# Altium footprint library exar.PCBLIB: 33 footprints (part 2 of 3)
Each footprint in its own frame and in the unit in brackets; x right, y up, seen from the top. Pads: shape width x height; smd on the part's side, far side on the other; paste and mask are expansions set on the pad; w line width, h text height; cw(c..) or ccw(c..) is an arc to the next point about the centre after c.
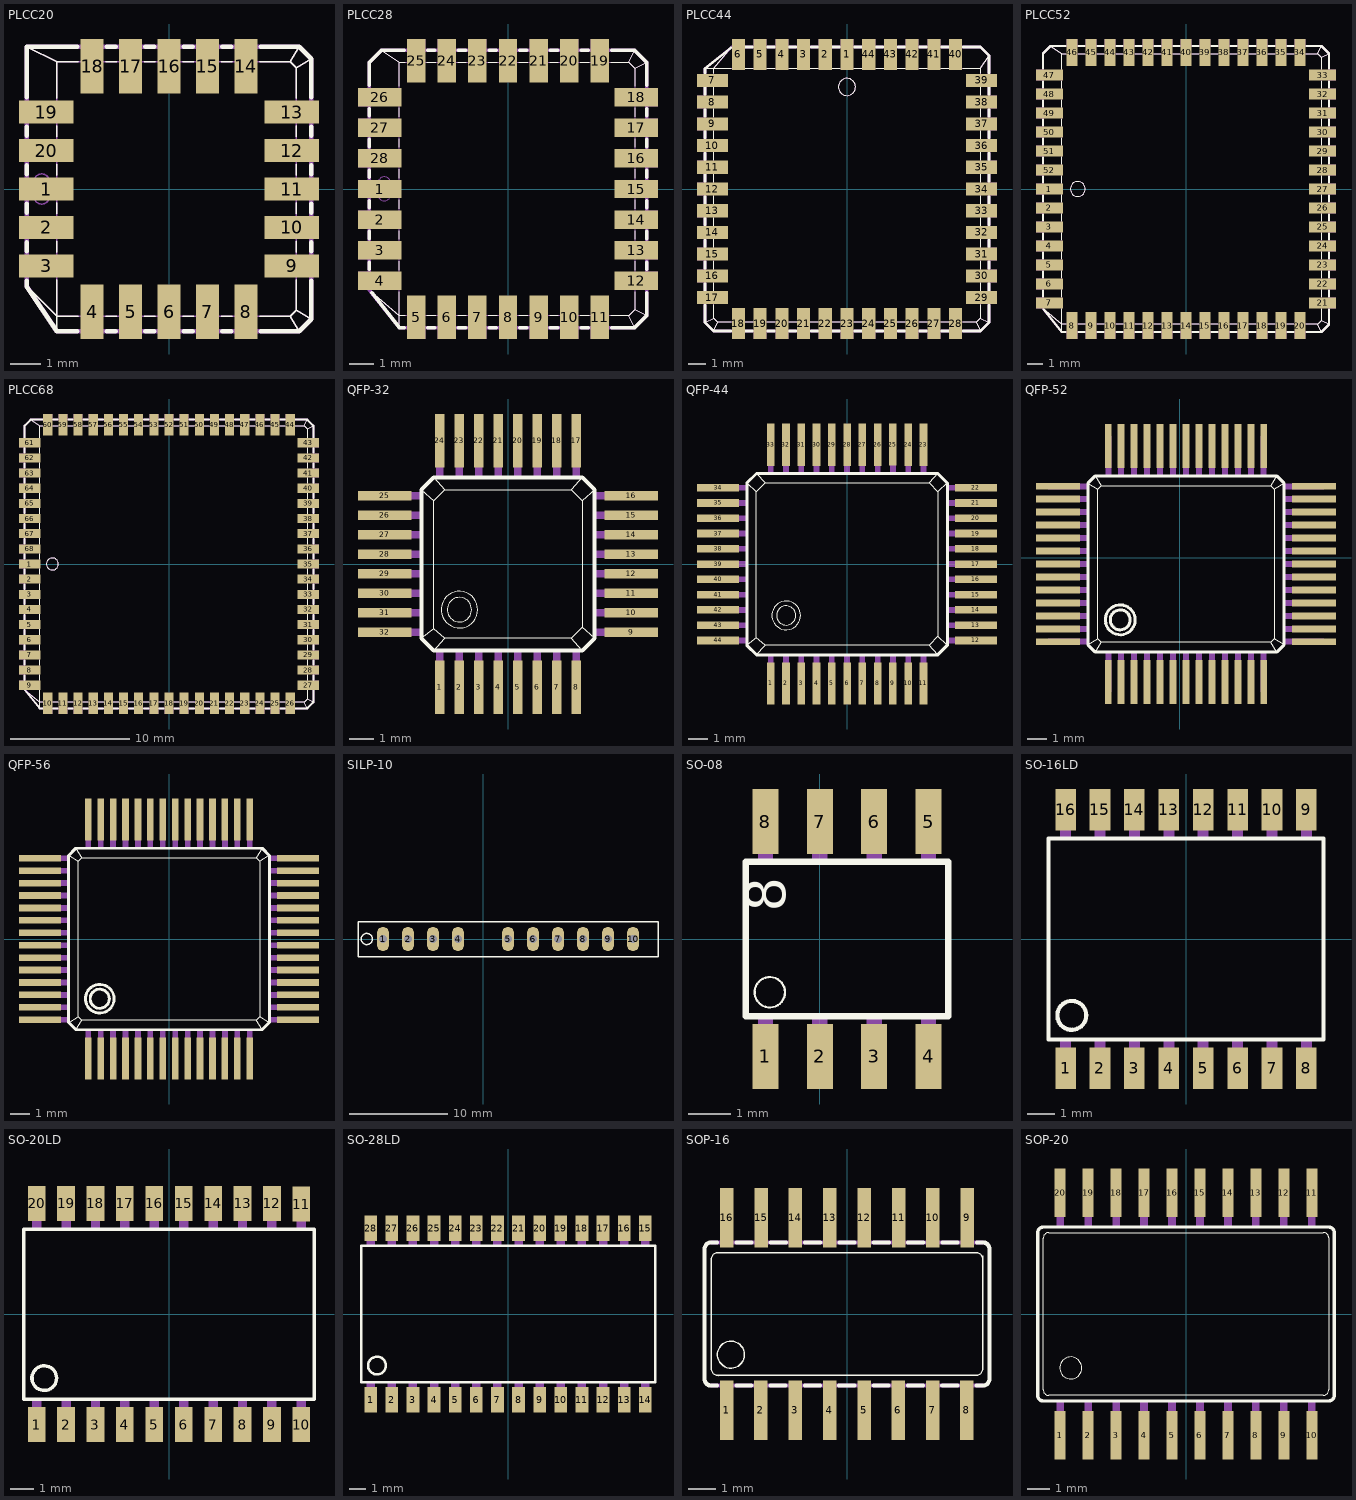
[diagram p1: the footprints below, top view; thin cyan lines are the x and y axes]

## PLCC20 [mil]
pads (20):
  rect 70.87x29.92 smd: 1(-159.45,0) 2(-159.45,-50) 3(-159.45,-100) 9(159.45,-100) 10(159.45,-50) 11(159.45,0) 12(159.45,50) 13(159.45,100) 19(-159.45,100) 20(-159.45,50)
  rect 29.92x70.87 smd: 4(-100,-159.45) 5(-50,-159.45) 6(0,-159.45) 7(50,-159.45) 8(100,-159.45) 14(100,159.45) 15(50,159.45) 16(0,159.45) 17(-50,159.45) 18(-100,159.45)
Top Overlay:
  lines w2: -185.04,185.04 -145.67,165.35 ; -184.65,-126.38 -145.67,-165.35 ; -145.67,-184.65 -145.67,-165.35 ; -145.67,-117.76 -145.67,-165.35 ; -145.67,-82.24 -145.67,-67.76 ; -145.67,-32.24 -145.67,-17.76 ; -145.67,17.76 -145.67,32.24 ; -145.67,67.76 -145.67,82.24 ; -145.67,117.76 -145.67,165.35 ; -117.76,-165.35 -145.67,-165.35 ; -117.76,165.35 -145.67,165.35 ; -82.24,-165.35 -67.76,-165.35 ; -82.24,165.35 -67.76,165.35 ; -32.24,-165.35 -17.76,-165.35 ; -32.24,165.35 -17.76,165.35 ; 17.76,-165.35 32.24,-165.35 ; 17.76,165.35 32.24,165.35 ; 67.76,-165.35 82.24,-165.35 ; 67.76,165.35 82.24,165.35 ; 117.76,-165.35 157.48,-165.35 ; 117.76,165.35 157.48,165.35 ; 165.35,-117.76 165.35,-157.48 ; 165.35,-82.24 165.35,-67.76 ; 165.35,-32.24 165.35,-17.76 ; 165.35,17.76 165.35,32.24 ; 165.35,67.76 165.35,82.24 ; 165.35,117.76 165.35,157.48 ; 169.29,-185.04 157.48,-165.35 ; 169.29,185.04 157.48,165.35 ; 185.04,-169.29 165.35,-157.48 ; 185.04,169.29 165.35,157.48 ; 157.48,-165.35 165.35,-157.48 ; 157.48,165.35 165.35,157.48
  lines w6: -185.04,-119.33 -185.04,-126.38 -145.67,-185.04 -119.33,-185.04 ; -185.04,-80.67 -185.04,-69.33 ; -185.04,-30.67 -185.04,-19.33 ; -185.04,19.33 -185.04,30.67 ; -185.04,69.33 -185.04,80.67 ; -185.04,119.33 -185.04,185.04 -119.33,185.04 ; -80.67,-185.04 -69.33,-185.04 ; -80.67,185.04 -69.33,185.04 ; -30.67,-185.04 -19.33,-185.04 ; -30.67,185.04 -19.33,185.04 ; 19.33,-185.04 30.67,-185.04 ; 19.33,185.04 30.67,185.04 ; 69.33,-185.04 80.67,-185.04 ; 69.33,185.04 80.67,185.04 ; 119.33,-185.04 169.29,-185.04 185.04,-169.29 185.04,-119.33 ; 119.33,185.04 169.29,185.04 185.04,169.29 185.04,119.33 ; 185.04,-80.67 185.04,-69.33 ; 185.04,-30.67 185.04,-19.33 ; 185.04,19.33 185.04,30.67 ; 185.04,69.33 185.04,80.67
Mechanical 16:
  rectangle: -109.84,-194.88 -90.16,-185.04
  rectangle: -109.84,185.04 -90.16,194.88
  rectangle: -59.84,185.04 -40.16,194.88
  rectangle: -9.84,185.04 9.84,194.88
  rectangle: 40.16,185.04 59.84,194.88
  rectangle: 90.16,185.04 109.84,194.88
  rectangle: 40.16,185.04 59.84,194.88
  rectangle: -9.84,185.04 9.84,194.88
  rectangle: 185.04,90.16 194.88,109.84
  rectangle: 185.04,40.16 194.88,59.84
  rectangle: 185.04,-9.84 194.88,9.84
  rectangle: 185.04,-59.84 194.88,-40.16
  rectangle: 185.04,-109.84 194.88,-90.16
  rectangle: -59.84,-194.88 -40.16,-185.04
  rectangle: -9.84,-194.88 9.84,-185.04
  rectangle: 40.16,-194.88 59.84,-185.04
  rectangle: 90.16,-194.88 109.84,-185.04
  rectangle: -194.88,90.16 -185.04,109.84
  rectangle: -194.88,40.16 -185.04,59.84
  rectangle: -194.88,-9.84 -185.04,9.84
  rectangle: -194.88,-59.84 -185.04,-40.16
  rectangle: -194.88,-109.84 -185.04,-90.16
  lines w2: -185.04,-125.98 -145.67,-165.35 ; -185.04,185.04 -145.67,165.35 ; 169.29,-185.04 157.48,-165.35 ; 169.29,185.04 157.48,165.35 ; 185.04,-169.29 165.35,-157.48 ; 185.04,169.29 165.35,157.48 ; -145.67,-165.35 157.48,-165.35 ; -145.67,-165.35 -145.67,165.35 ; -145.67,165.35 157.48,165.35 ; 157.48,-165.35 165.35,-157.48 ; 157.48,165.35 165.35,157.48 ; 165.35,-157.48 165.35,157.48 ; -175.2,-9.84 ccw(c-165.35,-9.84) -155.51,-9.84 -155.51,9.84 ccw(c-165.35,9.84) -175.2,9.84 -175.2,-9.84
  lines w6: -185.04,-125.98 -185.04,185.04 169.29,185.04 185.04,169.29 185.04,-169.29 169.29,-185.04 -145.67,-185.04 -185.04,-125.98

## PLCC28 [mil]
pads (28):
  rect 70.87x29.92 smd: 1(-209.45,0) 2(-209.45,-50) 3(-209.45,-100) 4(-209.45,-150) 12(209.45,-150) 13(209.45,-100) 14(209.45,-50) 15(209.45,0) 16(209.45,50) 17(209.45,100) 18(209.45,150) 26(-209.45,150) 27(-209.45,100) 28(-209.45,50)
  rect 29.92x70.87 smd: 5(-150,-209.45) 6(-100,-209.45) 7(-50,-209.45) 8(0,-209.45) 9(50,-209.45) 10(100,-209.45) 11(150,-209.45) 19(150,209.45) 20(100,209.45) 21(50,209.45) 22(0,209.45) 23(-50,209.45) 24(-100,209.45) 25(-150,209.45)
Top Overlay:
  lines w2: -223.58,-167.76 -177.17,-206.69 ; -206.69,226.38 -177.17,206.69 ; -177.17,-226.38 -177.17,-206.69 ; -177.17,-167.76 -177.17,-206.69 ; -177.17,-132.24 -177.17,-117.76 ; -177.17,-82.24 -177.17,-67.76 ; -177.17,-32.24 -177.17,-17.76 ; -177.17,17.76 -177.17,32.24 ; -177.17,67.76 -177.17,82.24 ; -177.17,117.76 -177.17,132.24 ; -177.17,167.76 -177.17,206.69 ; -167.76,-206.69 -177.17,-206.69 ; -167.76,206.69 -177.17,206.69 ; -132.24,-206.69 -117.76,-206.69 ; -132.24,206.69 -117.76,206.69 ; -82.24,-206.69 -67.76,-206.69 ; -82.24,206.69 -67.76,206.69 ; -32.24,-206.69 -17.76,-206.69 ; -32.24,206.69 -17.76,206.69 ; 17.76,-206.69 32.24,-206.69 ; 17.76,206.69 32.24,206.69 ; 67.76,-206.69 82.24,-206.69 ; 67.76,206.69 82.24,206.69 ; 117.76,-206.69 132.24,-206.69 ; 117.76,206.69 132.24,206.69 ; 167.76,-206.69 196.85,-206.69 ; 167.76,206.69 196.85,206.69 ; 206.69,-226.38 196.85,-206.69 ; 206.69,-167.76 206.69,-196.85 ; 206.69,-132.24 206.69,-117.76 ; 206.69,-82.24 206.69,-67.76 ; 206.69,-32.24 206.69,-17.76 ; 206.69,17.76 206.69,32.24 ; 206.69,67.76 206.69,82.24 ; 206.69,117.76 206.69,132.24 ; 206.69,167.76 206.69,196.85 ; 206.69,226.38 196.85,206.69 ; 226.38,-206.69 206.69,-196.85 ; 226.38,206.69 206.69,196.85 ; 196.85,-206.69 206.69,-196.85 ; 196.85,206.69 206.69,196.85
  lines w6: -226.38,-130.67 -226.38,-119.33 ; -226.38,-80.67 -226.38,-69.33 ; -226.38,-30.67 -226.38,-19.33 ; -226.38,19.33 -226.38,30.67 ; -226.38,69.33 -226.38,80.67 ; -226.38,119.33 -226.38,130.67 ; -226.38,169.33 -226.38,206.69 -206.69,226.38 -169.33,226.38 ; -222.4,-169.33 -177.17,-226.38 -169.33,-226.38 ; -130.67,-226.38 -119.33,-226.38 ; -130.67,226.38 -119.33,226.38 ; -80.67,-226.38 -69.33,-226.38 ; -80.67,226.38 -69.33,226.38 ; -30.67,-226.38 -19.33,-226.38 ; -30.67,226.38 -19.33,226.38 ; 19.33,-226.38 30.67,-226.38 ; 19.33,226.38 30.67,226.38 ; 69.33,-226.38 80.67,-226.38 ; 69.33,226.38 80.67,226.38 ; 119.33,-226.38 130.67,-226.38 ; 119.33,226.38 130.67,226.38 ; 169.33,-226.38 206.69,-226.38 226.38,-206.69 226.38,-169.33 ; 169.33,226.38 206.69,226.38 226.38,206.69 226.38,169.33 ; 226.38,-130.67 226.38,-119.33 ; 226.38,-80.67 226.38,-69.33 ; 226.38,-30.67 226.38,-19.33 ; 226.38,19.33 226.38,30.67 ; 226.38,69.33 226.38,80.67 ; 226.38,119.33 226.38,130.67
Mechanical 16:
  rectangle: -164.96,226.38 -135.04,244.88
  rectangle: -114.96,226.38 -85.04,244.88
  rectangle: -64.96,226.38 -35.04,244.88
  rectangle: -14.96,226.38 14.96,244.88
  rectangle: 35.04,226.38 64.96,244.88
  rectangle: 85.04,226.38 114.96,244.88
  rectangle: 135.04,226.38 164.96,244.88
  rectangle: 226.38,135.04 244.88,164.96
  rectangle: 226.38,85.04 244.88,114.96
  rectangle: 226.38,35.04 244.88,64.96
  rectangle: 226.38,-14.96 244.88,14.96
  rectangle: 226.38,-64.96 244.88,-35.04
  rectangle: 226.38,-114.96 244.88,-85.04
  rectangle: 226.38,-164.96 244.88,-135.04
  rectangle: -164.96,-244.88 -135.04,-226.38
  rectangle: -114.96,-244.88 -85.04,-226.38
  rectangle: -64.96,-244.88 -35.04,-226.38
  rectangle: -14.96,-244.88 14.96,-226.38
  rectangle: 35.04,-244.88 64.96,-226.38
  rectangle: 85.04,-244.88 114.96,-226.38
  rectangle: 135.04,-244.88 164.96,-226.38
  rectangle: -244.88,135.04 -226.38,164.96
  rectangle: -244.88,85.04 -226.38,114.96
  rectangle: -244.88,35.04 -226.38,64.96
  rectangle: -244.88,-14.96 -226.38,14.96
  rectangle: -244.88,-64.96 -226.38,-35.04
  rectangle: -244.88,-114.96 -226.38,-85.04
  rectangle: -244.88,-164.96 -226.38,-135.04
  lines w2: -226.38,-164.96 -177.17,-206.69 ; -206.69,226.38 -177.17,206.69 ; -177.17,-226.38 -177.17,-206.69 ; 206.69,-226.38 196.85,-206.69 ; 206.69,226.38 196.85,206.69 ; 226.38,-206.69 206.69,-196.85 ; 226.38,206.69 206.69,196.85 ; -177.17,-206.69 196.85,-206.69 ; -177.17,-206.69 -177.17,206.69 ; -177.17,206.69 196.85,206.69 ; 196.85,-206.69 206.69,-196.85 ; 196.85,206.69 206.69,196.85 ; 206.69,-196.85 206.69,196.85 ; -211.81,-9.65 ccw(c-201.97,-9.65) -192.13,-9.65 -192.13,10.04 ccw(c-201.97,10.04) -211.81,10.04 -211.81,-9.65
  lines w6: -226.38,-164.96 -177.17,-226.38 206.69,-226.38 226.38,-206.69 226.38,206.69 206.69,226.38 -206.69,226.38 -226.38,206.69 -226.38,-164.96

## PLCC44 [mil]
pads (44):
  rect 29.92x70.87 smd: 1(0,309.45) 2(-50,309.45) 3(-100,309.45) 4(-150,309.45) 5(-200,309.45) 6(-250,309.45) 18(-250,-309.45) 19(-200,-309.45) 20(-150,-309.45) 21(-100,-309.45) 22(-50,-309.45) 23(0,-309.45) 24(50,-309.45) 25(100,-309.45) 26(150,-309.45) 27(200,-309.45) 28(250,-309.45) 40(250,309.45) 41(200,309.45) 42(150,309.45) 43(100,309.45) 44(50,309.45)
  rect 70.87x29.92 smd: 7(-309.45,250) 8(-309.45,200) 9(-309.45,150) 10(-309.45,100) 11(-309.45,50) 12(-309.45,0) 13(-309.45,-50) 14(-309.45,-100) 15(-309.45,-150) 16(-309.45,-200) 17(-309.45,-250) 29(309.45,-250) 30(309.45,-200) 31(309.45,-150) 32(309.45,-100) 33(309.45,-50) 34(309.45,0) 35(309.45,50) 36(309.45,100) 37(309.45,150) 38(309.45,200) 39(309.45,250)
Top Overlay:
  circle w2: c0,234.65 r19.69
  lines w2: -326.38,-306.69 -306.69,-296.85 ; -326.38,277.17 -306.69,277.17 ; -306.69,-326.38 -296.85,-306.69 ; -306.69,-265.75 -306.69,-296.85 ; -306.69,-234.25 -306.69,-215.75 ; -306.69,-184.25 -306.69,-165.75 ; -306.69,-134.25 -306.69,-115.75 ; -306.69,-84.25 -306.69,-65.75 ; -306.69,-34.25 -306.69,-15.75 ; -306.69,15.75 -306.69,34.25 ; -306.69,65.75 -306.69,84.25 ; -306.69,115.75 -306.69,134.25 ; -306.69,165.75 -306.69,184.25 ; -306.69,215.75 -306.69,234.25 ; -306.69,265.75 -306.69,277.17 ; -265.75,-306.69 -296.85,-306.69 ; -265.75,277.17 -306.69,277.17 ; -265.75,325.59 -306.69,277.17 ; -234.25,-306.69 -215.75,-306.69 ; -234.25,277.17 -215.75,277.17 ; -184.25,-306.69 -165.75,-306.69 ; -184.25,277.17 -165.75,277.17 ; -134.25,-306.69 -115.75,-306.69 ; -134.25,277.17 -115.75,277.17 ; -84.25,-306.69 -65.75,-306.69 ; -84.25,277.17 -65.75,277.17 ; -34.25,-306.69 -15.75,-306.69 ; -34.25,277.17 -15.75,277.17 ; 15.75,-306.69 34.25,-306.69 ; 15.75,277.17 34.25,277.17 ; 65.75,-306.69 84.25,-306.69 ; 65.75,277.17 84.25,277.17 ; 115.75,-306.69 134.25,-306.69 ; 115.75,277.17 134.25,277.17 ; 165.75,-306.69 184.25,-306.69 ; 165.75,277.17 184.25,277.17 ; 215.75,-306.69 234.25,-306.69 ; 215.75,277.17 234.25,277.17 ; 265.75,-306.69 296.85,-306.69 ; 265.75,277.17 306.69,277.17 ; 306.69,-326.38 296.85,-306.69 ; 306.69,-265.75 306.69,-296.85 ; 306.69,-234.25 306.69,-215.75 ; 306.69,-184.25 306.69,-165.75 ; 306.69,-134.25 306.69,-115.75 ; 306.69,-84.25 306.69,-65.75 ; 306.69,-34.25 306.69,-15.75 ; 306.69,15.75 306.69,34.25 ; 306.69,65.75 306.69,84.25 ; 306.69,115.75 306.69,134.25 ; 306.69,165.75 306.69,184.25 ; 306.69,215.75 306.69,234.25 ; 306.69,265.75 306.69,277.17 ; 326.38,-306.69 306.69,-296.85 ; 326.38,306.69 306.69,277.17 ; -306.69,-296.85 -296.85,-306.69 ; 296.85,-306.69 306.69,-296.85
  lines w6: -326.38,-267.32 -326.38,-306.69 -306.69,-326.38 -267.32,-326.38 ; -326.38,-232.68 -326.38,-217.32 ; -326.38,-182.68 -326.38,-167.32 ; -326.38,-132.68 -326.38,-117.32 ; -326.38,-82.68 -326.38,-67.32 ; -326.38,-32.68 -326.38,-17.32 ; -326.38,17.32 -326.38,32.68 ; -326.38,67.32 -326.38,82.68 ; -326.38,117.32 -326.38,132.68 ; -326.38,167.32 -326.38,182.68 ; -326.38,217.32 -326.38,232.68 ; -326.38,267.32 -326.38,277.17 -267.32,324.41 ; -232.68,-326.38 -217.32,-326.38 ; -232.68,326.38 -217.32,326.38 ; -182.68,-326.38 -167.32,-326.38 ; -182.68,326.38 -167.32,326.38 ; -132.68,-326.38 -117.32,-326.38 ; -132.68,326.38 -117.32,326.38 ; -82.68,-326.38 -67.32,-326.38 ; -82.68,326.38 -67.32,326.38 ; -32.68,-326.38 -17.32,-326.38 ; -32.68,326.38 -17.32,326.38 ; 17.32,-326.38 32.68,-326.38 ; 17.32,326.38 32.68,326.38 ; 67.32,-326.38 82.68,-326.38 ; 67.32,326.38 82.68,326.38 ; 117.32,-326.38 132.68,-326.38 ; 117.32,326.38 132.68,326.38 ; 167.32,-326.38 182.68,-326.38 ; 167.32,326.38 182.68,326.38 ; 217.32,-326.38 232.68,-326.38 ; 217.32,326.38 232.68,326.38 ; 267.32,-326.38 306.69,-326.38 326.38,-306.69 326.38,-267.32 ; 267.32,326.38 306.69,326.38 326.38,306.69 326.38,267.32 ; 326.38,-232.68 326.38,-217.32 ; 326.38,-182.68 326.38,-167.32 ; 326.38,-132.68 326.38,-117.32 ; 326.38,-82.68 326.38,-67.32 ; 326.38,-32.68 326.38,-17.32 ; 326.38,17.32 326.38,32.68 ; 326.38,67.32 326.38,82.68 ; 326.38,117.32 326.38,132.68 ; 326.38,167.32 326.38,182.68 ; 326.38,217.32 326.38,232.68
Mechanical 16:
  circle w2: c0,234.65 r19.69
  rectangle: 326.38,85.04 344.88,114.96
  rectangle: 326.38,35.04 344.88,64.96
  rectangle: 326.38,-14.96 344.88,14.96
  rectangle: 326.38,-64.96 344.88,-35.04
  rectangle: 326.38,-114.96 344.88,-85.04
  rectangle: 326.38,-164.96 344.88,-135.04
  rectangle: 326.38,-214.96 344.88,-185.04
  rectangle: 135.04,-344.88 164.96,-326.38
  rectangle: 85.04,-344.88 114.96,-326.38
  rectangle: 35.04,-344.88 64.96,-326.38
  rectangle: -14.96,-344.88 14.96,-326.38
  rectangle: -64.96,-344.88 -35.04,-326.38
  rectangle: -114.96,-344.88 -85.04,-326.38
  rectangle: -264.96,-344.88 -235.04,-326.38
  rectangle: -344.88,185.04 -326.38,214.96
  rectangle: -344.88,135.04 -326.38,164.96
  rectangle: -344.88,85.04 -326.38,114.96
  rectangle: -344.88,35.04 -326.38,64.96
  rectangle: -344.88,-14.96 -326.38,14.96
  rectangle: -344.88,-64.96 -326.38,-35.04
  rectangle: -344.88,-114.96 -326.38,-85.04
  rectangle: 135.04,326.38 164.96,344.88
  rectangle: 85.04,326.38 114.96,344.88
  rectangle: 35.04,326.38 64.96,344.88
  rectangle: -14.96,326.38 14.96,344.88
  rectangle: -64.96,326.38 -35.04,344.88
  rectangle: -114.96,326.38 -85.04,344.88
  rectangle: -264.96,326.38 -235.04,344.88
  rectangle: 326.38,135.04 344.88,164.96
  rectangle: 326.38,185.04 344.88,214.96
  rectangle: -344.88,-164.96 -326.38,-135.04
  rectangle: -344.88,-214.96 -326.38,-185.04
  rectangle: 185.04,326.38 214.96,344.88
  rectangle: 235.04,326.38 264.96,344.88
  rectangle: -164.96,326.38 -135.04,344.88
  rectangle: -214.96,326.38 -185.04,344.88
  rectangle: -344.88,-264.96 -326.38,-235.04
  rectangle: -214.96,-344.88 -185.04,-326.38
  rectangle: -164.96,-344.88 -135.04,-326.38
  rectangle: 185.04,-344.88 214.96,-326.38
  rectangle: 235.04,-344.88 264.96,-326.38
  rectangle: 326.38,-264.96 344.88,-235.04
  rectangle: 326.38,235.04 344.88,264.96
  rectangle: -344.88,235.04 -326.38,264.96
  lines w2: -326.38,-306.69 -306.69,-296.85 ; -326.38,277.17 -306.69,277.17 ; -306.69,-326.38 -296.85,-306.69 ; -264.96,326.38 -306.69,277.17 ; 306.69,-326.38 296.85,-306.69 ; 326.38,-306.69 306.69,-296.85 ; 326.38,306.69 306.69,277.17 ; -306.69,-296.85 -296.85,-306.69 ; -306.69,-296.85 -306.69,277.17 ; -306.69,277.17 306.69,277.17 ; -296.85,-306.69 296.85,-306.69 ; 296.85,-306.69 306.69,-296.85 ; 306.69,-296.85 306.69,277.17
  lines w6: -326.38,-306.69 -306.69,-326.38 306.69,-326.38 326.38,-306.69 326.38,306.69 306.69,326.38 -264.96,326.38 -326.38,277.17 -326.38,-306.69

## PLCC52 [mil]
pads (52):
  rect 70.87x29.92 smd: 1(-359.45,0) 2(-359.45,-50) 3(-359.45,-100) 4(-359.45,-150) 5(-359.45,-200) 6(-359.45,-250) 7(-359.45,-300) 21(359.45,-300) 22(359.45,-250) 23(359.45,-200) 24(359.45,-150) 25(359.45,-100) 26(359.45,-50) 27(359.45,0) 28(359.45,50) 29(359.45,100) 30(359.45,150) 31(359.45,200) 32(359.45,250) 33(359.45,300) 47(-359.45,300) 48(-359.45,250) 49(-359.45,200) 50(-359.45,150) 51(-359.45,100) 52(-359.45,50)
  rect 29.92x70.87 smd: 8(-300,-359.45) 9(-250,-359.45) 10(-200,-359.45) 11(-150,-359.45) 12(-100,-359.45) 13(-50,-359.45) 14(0,-359.45) 15(50,-359.45) 16(100,-359.45) 17(150,-359.45) 18(200,-359.45) 19(250,-359.45) 20(300,-359.45) 34(300,359.45) 35(250,359.45) 36(200,359.45) 37(150,359.45) 38(100,359.45) 39(50,359.45) 40(0,359.45) 41(-50,359.45) 42(-100,359.45) 43(-150,359.45) 44(-200,359.45) 45(-250,359.45) 46(-300,359.45)
Top Overlay:
  circle w2: c-284.65,0 r19.69
  lines w2: -375.59,-315.75 -327.17,-356.69 ; -356.69,376.38 -327.17,356.69 ; -327.17,-376.38 -327.17,-356.69 ; -327.17,-315.75 -327.17,-356.69 ; -327.17,-284.25 -327.17,-265.75 ; -327.17,-234.25 -327.17,-215.75 ; -327.17,-184.25 -327.17,-165.75 ; -327.17,-134.25 -327.17,-115.75 ; -327.17,-84.25 -327.17,-65.75 ; -327.17,-34.25 -327.17,-15.75 ; -327.17,15.75 -327.17,34.25 ; -327.17,65.75 -327.17,84.25 ; -327.17,115.75 -327.17,134.25 ; -327.17,165.75 -327.17,184.25 ; -327.17,215.75 -327.17,234.25 ; -327.17,265.75 -327.17,284.25 ; -327.17,315.75 -327.17,356.69 ; -315.75,-356.69 -327.17,-356.69 ; -315.75,356.69 -327.17,356.69 ; -284.25,-356.69 -265.75,-356.69 ; -284.25,356.69 -265.75,356.69 ; -234.25,-356.69 -215.75,-356.69 ; -234.25,356.69 -215.75,356.69 ; -184.25,-356.69 -165.75,-356.69 ; -184.25,356.69 -165.75,356.69 ; -134.25,-356.69 -115.75,-356.69 ; -134.25,356.69 -115.75,356.69 ; -84.25,-356.69 -65.75,-356.69 ; -84.25,356.69 -65.75,356.69 ; -34.25,-356.69 -15.75,-356.69 ; -34.25,356.69 -15.75,356.69 ; 15.75,-356.69 34.25,-356.69 ; 15.75,356.69 34.25,356.69 ; 65.75,-356.69 84.25,-356.69 ; 65.75,356.69 84.25,356.69 ; 115.75,-356.69 134.25,-356.69 ; 115.75,356.69 134.25,356.69 ; 165.75,-356.69 184.25,-356.69 ; 165.75,356.69 184.25,356.69 ; 215.75,-356.69 234.25,-356.69 ; 215.75,356.69 234.25,356.69 ; 265.75,-356.69 284.25,-356.69 ; 265.75,356.69 284.25,356.69 ; 315.75,-356.69 346.85,-356.69 ; 315.75,356.69 346.85,356.69 ; 356.69,-376.38 346.85,-356.69 ; 356.69,-315.75 356.69,-346.85 ; 356.69,-284.25 356.69,-265.75 ; 356.69,-234.25 356.69,-215.75 ; 356.69,-184.25 356.69,-165.75 ; 356.69,-134.25 356.69,-115.75 ; 356.69,-84.25 356.69,-65.75 ; 356.69,-34.25 356.69,-15.75 ; 356.69,15.75 356.69,34.25 ; 356.69,65.75 356.69,84.25 ; 356.69,115.75 356.69,134.25 ; 356.69,165.75 356.69,184.25 ; 356.69,215.75 356.69,234.25 ; 356.69,265.75 356.69,284.25 ; 356.69,315.75 356.69,346.85 ; 356.69,376.38 346.85,356.69 ; 376.38,-356.69 356.69,-346.85 ; 376.38,356.69 356.69,346.85 ; 346.85,-356.69 356.69,-346.85 ; 346.85,356.69 356.69,346.85
  lines w6: -376.38,-282.68 -376.38,-267.32 ; -376.38,-232.68 -376.38,-217.32 ; -376.38,-182.68 -376.38,-167.32 ; -376.38,-132.68 -376.38,-117.32 ; -376.38,-82.68 -376.38,-67.32 ; -376.38,-32.68 -376.38,-17.32 ; -376.38,17.32 -376.38,32.68 ; -376.38,67.32 -376.38,82.68 ; -376.38,117.32 -376.38,132.68 ; -376.38,167.32 -376.38,182.68 ; -376.38,217.32 -376.38,232.68 ; -376.38,267.32 -376.38,282.68 ; -376.38,317.32 -376.38,356.69 -356.69,376.38 -317.32,376.38 ; -374.41,-317.32 -327.17,-376.38 -317.32,-376.38 ; -282.68,-376.38 -267.32,-376.38 ; -282.68,376.38 -267.32,376.38 ; -232.68,-376.38 -217.32,-376.38 ; -232.68,376.38 -217.32,376.38 ; -182.68,-376.38 -167.32,-376.38 ; -182.68,376.38 -167.32,376.38 ; -132.68,-376.38 -117.32,-376.38 ; -132.68,376.38 -117.32,376.38 ; -82.68,-376.38 -67.32,-376.38 ; -82.68,376.38 -67.32,376.38 ; -32.68,-376.38 -17.32,-376.38 ; -32.68,376.38 -17.32,376.38 ; 17.32,-376.38 32.68,-376.38 ; 17.32,376.38 32.68,376.38 ; 67.32,-376.38 82.68,-376.38 ; 67.32,376.38 82.68,376.38 ; 117.32,-376.38 132.68,-376.38 ; 117.32,376.38 132.68,376.38 ; 167.32,-376.38 182.68,-376.38 ; 167.32,376.38 182.68,376.38 ; 217.32,-376.38 232.68,-376.38 ; 217.32,376.38 232.68,376.38 ; 267.32,-376.38 282.68,-376.38 ; 267.32,376.38 282.68,376.38 ; 317.32,-376.38 356.69,-376.38 376.38,-356.69 376.38,-317.32 ; 317.32,376.38 356.69,376.38 376.38,356.69 376.38,317.32 ; 376.38,-282.68 376.38,-267.32 ; 376.38,-232.68 376.38,-217.32 ; 376.38,-182.68 376.38,-167.32 ; 376.38,-132.68 376.38,-117.32 ; 376.38,-82.68 376.38,-67.32 ; 376.38,-32.68 376.38,-17.32 ; 376.38,17.32 376.38,32.68 ; 376.38,67.32 376.38,82.68 ; 376.38,117.32 376.38,132.68 ; 376.38,167.32 376.38,182.68 ; 376.38,217.32 376.38,232.68 ; 376.38,267.32 376.38,282.68
Mechanical 16:
  circle w2: c-284.65,0 r19.69
  rectangle: -14.96,376.38 14.96,394.88
  rectangle: 35.04,376.38 64.96,394.88
  rectangle: 85.04,376.38 114.96,394.88
  rectangle: 135.04,376.38 164.96,394.88
  rectangle: 185.04,376.38 214.96,394.88
  rectangle: 235.04,376.38 264.96,394.88
  rectangle: 285.04,376.38 314.96,394.88
  rectangle: 376.38,235.04 394.88,264.96
  rectangle: 376.38,185.04 394.88,214.96
  rectangle: 376.38,135.04 394.88,164.96
  rectangle: 376.38,85.04 394.88,114.96
  rectangle: 376.38,35.04 394.88,64.96
  rectangle: 376.38,-14.96 394.88,14.96
  rectangle: 376.38,-314.96 394.88,-285.04
  rectangle: -114.96,-394.88 -85.04,-376.38
  rectangle: -64.96,-394.88 -35.04,-376.38
  rectangle: -14.96,-394.88 14.96,-376.38
  rectangle: 35.04,-394.88 64.96,-376.38
  rectangle: 85.04,-394.88 114.96,-376.38
  rectangle: 135.04,-394.88 164.96,-376.38
  rectangle: 185.04,-394.88 214.96,-376.38
  rectangle: -394.88,235.04 -376.38,264.96
  rectangle: -394.88,185.04 -376.38,214.96
  rectangle: -394.88,135.04 -376.38,164.96
  rectangle: -394.88,85.04 -376.38,114.96
  rectangle: -394.88,35.04 -376.38,64.96
  rectangle: -394.88,-14.96 -376.38,14.96
  rectangle: -394.88,-314.96 -376.38,-285.04
  rectangle: -64.96,376.38 -35.04,394.88
  rectangle: -114.96,376.38 -85.04,394.88
  rectangle: 235.04,-394.88 264.96,-376.38
  rectangle: 285.04,-394.88 314.96,-376.38
  rectangle: -394.88,285.04 -376.38,314.96
  rectangle: -394.88,-64.96 -376.38,-35.04
  rectangle: -394.88,-114.96 -376.38,-85.04
  rectangle: 376.38,-114.96 394.88,-85.04
  rectangle: 376.38,-64.96 394.88,-35.04
  rectangle: 376.38,285.04 394.88,314.96
  rectangle: -164.96,376.38 -135.04,394.88
  rectangle: -164.96,-394.88 -135.04,-376.38
  rectangle: 376.38,-164.96 394.88,-135.04
  rectangle: 376.38,-214.96 394.88,-185.04
  rectangle: 376.38,-264.96 394.88,-235.04
  rectangle: -214.96,-394.88 -185.04,-376.38
  rectangle: -264.96,-394.88 -235.04,-376.38
  rectangle: -314.96,-394.88 -285.04,-376.38
  rectangle: -394.88,-164.96 -376.38,-135.04
  rectangle: -394.88,-214.96 -376.38,-185.04
  rectangle: -394.88,-264.96 -376.38,-235.04
  rectangle: -214.96,376.38 -185.04,394.88
  rectangle: -264.96,376.38 -235.04,394.88
  rectangle: -314.96,376.38 -285.04,394.88
  lines w2: -376.38,-314.96 -327.17,-356.69 ; -356.69,376.38 -327.17,356.69 ; -327.17,-376.38 -327.17,-356.69 ; 356.69,-376.38 346.85,-356.69 ; 356.69,376.38 346.85,356.69 ; 376.38,-356.69 356.69,-346.85 ; 376.38,356.69 356.69,346.85 ; -327.17,-356.69 346.85,-356.69 ; -327.17,-356.69 -327.17,356.69 ; -327.17,356.69 346.85,356.69 ; 346.85,-356.69 356.69,-346.85 ; 346.85,356.69 356.69,346.85 ; 356.69,-346.85 356.69,346.85
  lines w6: -376.38,-314.96 -327.17,-376.38 356.69,-376.38 376.38,-356.69 376.38,356.69 356.69,376.38 -356.69,376.38 -376.38,356.69 -376.38,-314.96

## PLCC68 [mil]
pads (68):
  rect 70.87x29.92 smd: 1(-459.45,0) 2(-459.45,-50) 3(-459.45,-100) 4(-459.45,-150) 5(-459.45,-200) 6(-459.45,-250) 7(-459.45,-300) 8(-459.45,-350) 9(-459.45,-400) 27(459.45,-400) 28(459.45,-350) 29(459.45,-300) 30(459.45,-250) 31(459.45,-200) 32(459.45,-150) 33(459.45,-100) 34(459.45,-50) 35(459.45,0) 36(459.45,50) 37(459.45,100) 38(459.45,150) 39(459.45,200) 40(459.45,250) 41(459.45,300) 42(459.45,350) 43(459.45,400) 61(-459.45,400) 62(-459.45,350) 63(-459.45,300) 64(-459.45,250) 65(-459.45,200) 66(-459.45,150) 67(-459.45,100) 68(-459.45,50)
  rect 29.92x70.87 smd: 10(-400,-459.45) 11(-350,-459.45) 12(-300,-459.45) 13(-250,-459.45) 14(-200,-459.45) 15(-150,-459.45) 16(-100,-459.45) 17(-50,-459.45) 18(0,-459.45) 19(50,-459.45) 20(100,-459.45) 21(150,-459.45) 22(200,-459.45) 23(250,-459.45) 24(300,-459.45) 25(350,-459.45) 26(400,-459.45) 44(400,459.45) 45(350,459.45) 46(300,459.45) 47(250,459.45) 48(200,459.45) 49(150,459.45) 50(100,459.45) 51(50,459.45) 52(0,459.45) 53(-50,459.45) 54(-100,459.45) 55(-150,459.45) 56(-200,459.45) 57(-250,459.45) 58(-300,459.45) 59(-350,459.45) 60(-400,459.45)
Top Overlay:
  drawing of 157 lines, arcs and shapes, not listed
Mechanical 16:
  circle w2: c-384.65,0 r19.69
  rectangle: -114.96,476.38 -85.04,494.88
  rectangle: -64.96,476.38 -35.04,494.88
  rectangle: -14.96,476.38 14.96,494.88
  rectangle: 35.04,476.38 64.96,494.88
  rectangle: 85.04,476.38 114.96,494.88
  rectangle: 135.04,476.38 164.96,494.88
  rectangle: 185.04,476.38 214.96,494.88
  rectangle: 476.38,135.04 494.88,164.96
  rectangle: 476.38,85.04 494.88,114.96
  rectangle: 476.38,35.04 494.88,64.96
  rectangle: 476.38,-14.96 494.88,14.96
  rectangle: 476.38,-64.96 494.88,-35.04
  rectangle: 476.38,-114.96 494.88,-85.04
  rectangle: 476.38,-414.96 494.88,-385.04
  rectangle: -214.96,-494.88 -185.04,-476.38
  rectangle: -164.96,-494.88 -135.04,-476.38
  rectangle: -114.96,-494.88 -85.04,-476.38
  rectangle: -64.96,-494.88 -35.04,-476.38
  rectangle: -14.96,-494.88 14.96,-476.38
  rectangle: 35.04,-494.88 64.96,-476.38
  rectangle: 85.04,-494.88 114.96,-476.38
  rectangle: -494.88,135.04 -476.38,164.96
  rectangle: -494.88,85.04 -476.38,114.96
  rectangle: -494.88,35.04 -476.38,64.96
  rectangle: -494.88,-14.96 -476.38,14.96
  rectangle: -494.88,-64.96 -476.38,-35.04
  rectangle: -494.88,-114.96 -476.38,-85.04
  rectangle: -494.88,-414.96 -476.38,-385.04
  rectangle: -164.96,476.38 -135.04,494.88
  rectangle: -214.96,476.38 -185.04,494.88
  rectangle: 135.04,-494.88 164.96,-476.38
  rectangle: 185.04,-494.88 214.96,-476.38
  rectangle: -494.88,185.04 -476.38,214.96
  rectangle: -494.88,235.04 -476.38,264.96
  rectangle: -494.88,-164.96 -476.38,-135.04
  rectangle: -494.88,-214.96 -476.38,-185.04
  rectangle: 235.04,-494.88 264.96,-476.38
  rectangle: 476.38,-214.96 494.88,-185.04
  rectangle: 476.38,-164.96 494.88,-135.04
  rectangle: 476.38,185.04 494.88,214.96
  rectangle: 476.38,235.04 494.88,264.96
  rectangle: 235.04,476.38 264.96,494.88
  rectangle: -264.96,476.38 -235.04,494.88
  rectangle: -264.96,-494.88 -235.04,-476.38
  rectangle: 476.38,-264.96 494.88,-235.04
  rectangle: 476.38,-314.96 494.88,-285.04
  rectangle: 476.38,-364.96 494.88,-335.04
  rectangle: 285.04,-494.88 314.96,-476.38
  rectangle: 335.04,-494.88 364.96,-476.38
  rectangle: 385.04,-494.88 414.96,-476.38
  rectangle: -314.96,-494.88 -285.04,-476.38
  rectangle: -364.96,-494.88 -335.04,-476.38
  rectangle: -414.96,-494.88 -385.04,-476.38
  rectangle: -494.88,-264.96 -476.38,-235.04
  rectangle: -494.88,-314.96 -476.38,-285.04
  rectangle: -494.88,-364.96 -476.38,-335.04
  rectangle: -314.96,476.38 -285.04,494.88
  rectangle: -364.96,476.38 -335.04,494.88
  rectangle: -414.96,476.38 -385.04,494.88
  rectangle: -494.88,285.04 -476.38,314.96
  rectangle: -494.88,335.04 -476.38,364.96
  rectangle: -494.88,385.04 -476.38,414.96
  rectangle: 285.04,476.38 314.96,494.88
  rectangle: 335.04,476.38 364.96,494.88
  rectangle: 385.04,476.38 414.96,494.88
  rectangle: 476.38,285.04 494.88,314.96
  rectangle: 476.38,335.04 494.88,364.96
  rectangle: 476.38,385.04 494.88,414.96
  lines w2: -476.38,-414.96 -427.17,-456.69 ; -456.69,476.38 -427.17,456.69 ; -427.17,-476.38 -427.17,-456.69 ; 456.69,-476.38 446.85,-456.69 ; 456.69,476.38 446.85,456.69 ; 476.38,-456.69 456.69,-446.85 ; 476.38,456.69 456.69,446.85 ; -427.17,-456.69 446.85,-456.69 ; -427.17,-456.69 -427.17,456.69 ; -427.17,456.69 446.85,456.69 ; 446.85,-456.69 456.69,-446.85 ; 446.85,456.69 456.69,446.85 ; 456.69,-446.85 456.69,446.85
  lines w6: -476.38,-414.96 -427.17,-476.38 456.69,-476.38 476.38,-456.69 476.38,456.69 456.69,476.38 -456.69,476.38 -476.38,456.69 -476.38,-414.96

## QFP-32 [mm]
pads (32):
  rect 0.4x2.2 smd: 1(-2.8,-5.05) 2(-2,-5.05) 3(-1.2,-5.05) 4(-0.4,-5.05) 5(0.4,-5.05) 6(1.2,-5.05) 7(2,-5.05) 8(2.8,-5.05) 17(2.8,5.05) 18(2,5.05) 19(1.2,5.05) 20(0.4,5.05) 21(-0.4,5.05) 22(-1.2,5.05) 23(-2,5.05) 24(-2.8,5.05)
  rect 2.2x0.4 smd: 9(5.05,-2.8) 10(5.05,-2) 11(5.05,-1.2) 12(5.05,-0.4) 13(5.05,0.4) 14(5.05,1.2) 15(5.05,2) 16(5.05,2.8) 25(-5.05,2.8) 26(-5.05,2) 27(-5.05,1.2) 28(-5.05,0.4) 29(-5.05,-0.4) 30(-5.05,-1.2) 31(-5.05,-2) 32(-5.05,-2.8)
Top Overlay:
  circle w0.051: c-1.99,-1.871 r0.75
  circle w0.051: c-1.99,-1.871 r0.5
  lines w0.051: -3.55,-3.05 -3.05,-2.65 ; -3.55,3.05 -3.05,2.59 ; -3.05,-3.55 -2.59,-3.05 ; -3.05,3.55 -2.59,3.05 ; 3.05,-3.55 2.59,-3.05 ; 3.05,3.55 2.59,3.05 ; 3.55,-3.05 3.05,-2.59 ; 3.55,3.05 3.05,2.59 ; -3.05,-2.65 -3.05,2.59 ; -3.05,-2.65 -2.59,-3.05 ; -3.05,2.59 -2.59,3.05 ; -2.59,-3.05 2.59,-3.05 ; -2.59,3.05 2.59,3.05 ; 2.59,-3.05 3.05,-2.59 ; 2.59,3.05 3.05,2.59 ; 3.05,-2.59 3.05,2.59
  lines w0.152: -3.55,-3.05 -3.05,-3.55 3.05,-3.55 3.55,-3.05 3.55,3.05 3.05,3.55 -3.05,3.55 -3.55,3.05 -3.55,-3.05
Mechanical 16:
  rectangle: -2.95,3.55 -2.65,5.55
  rectangle: -2.15,3.55 -1.85,5.55
  rectangle: -1.35,3.55 -1.05,5.55
  rectangle: -0.55,3.55 -0.25,5.55
  rectangle: 0.25,3.55 0.55,5.55
  rectangle: 1.05,3.55 1.35,5.55
  rectangle: 1.85,3.55 2.15,5.55
  rectangle: 2.65,3.55 2.95,5.55
  rectangle: 3.55,2.65 5.55,2.95
  rectangle: 3.55,1.85 5.55,2.15
  rectangle: 3.55,1.05 5.55,1.35
  rectangle: 3.55,0.25 5.55,0.55
  rectangle: 3.55,-0.55 5.55,-0.25
  rectangle: 3.55,-1.35 5.55,-1.05
  rectangle: 3.55,-2.15 5.55,-1.85
  rectangle: 3.55,-2.95 5.55,-2.65
  rectangle: 2.65,-5.55 2.95,-3.55
  rectangle: 1.85,-5.55 2.15,-3.55
  rectangle: 1.05,-5.55 1.35,-3.55
  rectangle: 0.25,-5.55 0.55,-3.55
  rectangle: -0.55,-5.55 -0.25,-3.55
  rectangle: -1.35,-5.55 -1.05,-3.55
  rectangle: -2.15,-5.55 -1.85,-3.55
  rectangle: -2.95,-5.55 -2.65,-3.55
  rectangle: -5.55,-2.95 -3.55,-2.65
  rectangle: -5.55,-2.15 -3.55,-1.85
  rectangle: -5.55,-1.35 -3.55,-1.05
  rectangle: -5.55,-0.55 -3.55,-0.25
  rectangle: -5.55,0.25 -3.55,0.55
  rectangle: -5.55,1.05 -3.55,1.35
  rectangle: -5.55,1.85 -3.55,2.15
  rectangle: -5.55,2.65 -3.55,2.95

## QFP-44 [mm]
pads (44):
  rect 0.4x2.2 smd: 1(-4,-6.25) 2(-3.2,-6.25) 3(-2.4,-6.25) 4(-1.6,-6.25) 5(-0.8,-6.25) 6(0,-6.25) 7(0.8,-6.25) 8(1.6,-6.25) 9(2.4,-6.24) 10(3.2,-6.25) 11(4,-6.25) 23(4,6.25) 24(3.2,6.25) 25(2.4,6.26) 26(1.6,6.25) 27(0.8,6.25) 28(0,6.25) 29(-0.8,6.25) 30(-1.6,6.25) 31(-2.4,6.25) 32(-3.2,6.25) 33(-4,6.25)
  rect 2.2x0.4 smd: 12(6.75,-4) 13(6.75,-3.2) 14(6.75,-2.4) 15(6.75,-1.6) 16(6.75,-0.8) 17(6.75,0) 18(6.75,0.8) 19(6.75,1.6) 20(6.74,2.4) 21(6.75,3.2) 22(6.75,4) 34(-6.75,4) 35(-6.75,3.2) 36(-6.76,2.4) 37(-6.75,1.6) 38(-6.75,0.8) 39(-6.75,0) 40(-6.75,-0.8) 41(-6.75,-1.6) 42(-6.75,-2.4) 43(-6.75,-3.2) 44(-6.75,-4)
Top Overlay:
  circle w0.051: c-3.19,-2.69 r0.75
  circle w0.051: c-3.19,-2.69 r0.5
  lines w0.051: -5.25,-4.25 -4.75,-3.85 ; -5.25,4.25 -4.75,3.79 ; -4.75,-4.75 -4.29,-4.25 ; -4.75,4.75 -4.29,4.25 ; 4.75,-4.75 4.29,-4.25 ; 4.75,4.75 4.29,4.25 ; 5.25,-4.25 4.75,-3.79 ; 5.25,4.25 4.75,3.79 ; -4.75,-3.85 -4.75,3.79 ; -4.75,-3.85 -4.29,-4.25 ; -4.75,3.79 -4.29,4.25 ; -4.29,-4.25 4.29,-4.25 ; -4.29,4.25 4.29,4.25 ; 4.29,-4.25 4.75,-3.79 ; 4.29,4.25 4.75,3.79 ; 4.75,-3.79 4.75,3.79
  lines w0.152: -5.25,-4.25 -4.75,-4.75 4.75,-4.75 5.25,-4.25 5.25,4.25 4.75,4.75 -4.75,4.75 -5.25,4.25 -5.25,-4.25
Mechanical 16:
  rectangle: -4.15,4.75 -3.85,6.75
  rectangle: -3.35,4.75 -3.05,6.75
  rectangle: -2.55,4.75 -2.25,6.75
  rectangle: -1.75,4.75 -1.45,6.75
  rectangle: -0.95,4.75 -0.65,6.75
  rectangle: -0.15,4.75 0.15,6.75
  rectangle: 0.65,4.75 0.95,6.75
  rectangle: 1.45,4.75 1.75,6.75
  rectangle: 2.25,4.75 2.55,6.75
  rectangle: 3.05,4.75 3.35,6.75
  rectangle: 3.85,4.75 4.15,6.75
  rectangle: 5.25,3.05 7.25,3.35
  rectangle: 5.25,2.25 7.25,2.55
  rectangle: 5.25,1.45 7.25,1.75
  rectangle: 5.25,0.65 7.25,0.95
  rectangle: 5.25,-0.15 7.25,0.15
  rectangle: 5.25,-0.95 7.25,-0.65
  rectangle: 5.25,-1.75 7.25,-1.45
  rectangle: 5.25,-2.55 7.25,-2.25
  rectangle: 5.25,-3.35 7.25,-3.05
  rectangle: 5.25,-4.15 7.25,-3.85
  rectangle: 3.85,-6.75 4.15,-4.75
  rectangle: 3.05,-6.75 3.35,-4.75
  rectangle: 2.25,-6.75 2.55,-4.75
  rectangle: 1.45,-6.75 1.75,-4.75
  rectangle: 0.65,-6.75 0.95,-4.75
  rectangle: -0.15,-6.75 0.15,-4.75
  rectangle: -0.95,-6.75 -0.65,-4.75
  rectangle: -1.75,-6.75 -1.45,-4.75
  rectangle: -2.55,-6.75 -2.25,-4.75
  rectangle: -3.35,-6.75 -3.05,-4.75
  rectangle: -4.15,-6.75 -3.85,-4.75
  rectangle: -7.25,-4.15 -5.25,-3.85
  rectangle: -7.25,-3.35 -5.25,-3.05
  rectangle: -7.25,-2.55 -5.25,-2.25
  rectangle: -7.25,-1.75 -5.25,-1.45
  rectangle: -7.25,-0.95 -5.25,-0.65
  rectangle: -7.25,-0.15 -5.25,0.15
  rectangle: -7.25,0.65 -5.25,0.95
  rectangle: -7.25,1.45 -5.25,1.75
  rectangle: -7.25,2.25 -5.25,2.55
  rectangle: -7.25,3.05 -5.25,3.35
  rectangle: -7.25,3.849 -5.25,4.149
  rectangle: 5.25,3.85 7.25,4.15

## QFP-52 [mm]
pads (52):
  rect 0.35x2.2 smd: 1(-3.575,-6.25) 2(-2.925,-6.25) 3(-2.275,-6.25) 4(-1.625,-6.25) 5(-0.975,-6.25) 6(-0.325,-6.25) 7(0.325,-6.25) 8(0.975,-6.25) 9(1.625,-6.25) 10(2.275,-6.25) 11(2.925,-6.25) 12(3.575,-6.25) 13(4.225,-6.25) 27(4.225,5.6) 28(3.575,5.6) 29(2.925,5.6) 30(2.275,5.6) 31(1.625,5.6) 32(0.975,5.6) 33(0.325,5.6) 34(-0.325,5.6) 35(-0.975,5.6) 36(-1.625,5.6) 37(-2.275,5.6) 38(-2.925,5.6) 39(-3.575,5.6)
  rect 2.2x0.35 smd: 14(6.75,-4.225) 15(6.75,-3.575) 16(6.75,-2.925) 17(6.75,-2.275) 18(6.75,-1.625) 19(6.75,-0.975) 20(6.75,-0.325) 21(6.75,0.325) 22(6.75,0.975) 23(6.75,1.625) 24(6.75,2.275) 25(6.75,2.925) 26(6.75,3.575) 40(-6.1,3.575) 41(-6.1,2.925) 42(-6.1,2.275) 43(-6.1,1.625) 44(-6.1,0.975) 45(-6.1,0.325) 46(-6.1,-0.325) 47(-6.1,-0.975) 48(-6.1,-1.625) 49(-6.1,-2.275) 50(-6.1,-2.925) 51(-6.1,-3.575) 52(-6.1,-4.225)
Top Overlay:
  circle w0.152: c-2.974,-3.127 r0.75
  circle w0.152: c-2.974,-3.127 r0.501
  lines w0.051: -4.6,-4.375 -4.1,-4.075 ; -4.6,3.725 -4.1,3.425 ; -4.225,4.1 -3.925,3.6 ; -4.224,-4.751 -3.925,-4.25 ; 4.874,-4.751 4.575,-4.25 ; 4.875,4.1 4.575,3.6 ; 5.25,-4.375 4.75,-4.075 ; 5.25,3.725 4.75,3.425 ; -4.1,-4.075 -4.1,3.425 ; -4.1,-4.075 -3.925,-4.25 ; -4.1,3.425 -3.925,3.6 ; -3.925,-4.25 4.575,-4.25 ; -3.925,3.6 4.575,3.6 ; 4.575,-4.25 4.75,-4.075 ; 4.575,3.6 4.75,3.425 ; 4.75,-4.075 4.75,3.425
  lines w0.152: -4.6,-4.375 -4.6,3.725 -4.225,4.1 4.875,4.1 5.25,3.725 5.25,-4.375 4.874,-4.751 -4.224,-4.751 -4.6,-4.375
Mechanical 16:
  rectangle: -3.725,4.1 -3.425,6.1
  rectangle: -3.075,4.1 -2.775,6.1
  rectangle: -2.425,4.1 -2.125,6.1
  rectangle: -1.775,4.1 -1.475,6.1
  rectangle: -1.125,4.1 -0.825,6.1
  rectangle: -0.475,4.1 -0.175,6.1
  rectangle: 0.175,4.1 0.475,6.1
  rectangle: 0.825,4.1 1.125,6.1
  rectangle: 1.475,4.1 1.775,6.1
  rectangle: 2.125,4.1 2.425,6.1
  rectangle: 2.775,4.1 3.075,6.1
  rectangle: 3.425,4.1 3.725,6.1
  rectangle: 4.075,4.1 4.375,6.1
  rectangle: 5.25,3.425 7.25,3.725
  rectangle: 5.25,2.775 7.25,3.075
  rectangle: 5.25,2.125 7.25,2.425
  rectangle: 5.25,1.475 7.25,1.775
  rectangle: 5.25,0.825 7.25,1.125
  rectangle: 5.25,0.175 7.25,0.475
  rectangle: 5.25,-0.475 7.25,-0.175
  rectangle: 5.25,-1.125 7.25,-0.825
  rectangle: 5.25,-1.775 7.25,-1.475
  rectangle: 5.25,-2.425 7.25,-2.125
  rectangle: 5.25,-3.075 7.25,-2.775
  rectangle: 5.25,-3.725 7.25,-3.425
  rectangle: 5.25,-4.375 7.25,-4.075
  rectangle: -6.6,-4.375 -4.6,-4.075
  rectangle: -6.6,-3.725 -4.6,-3.425
  rectangle: -6.6,-3.075 -4.6,-2.775
  rectangle: -6.6,-2.425 -4.6,-2.125
  rectangle: -6.6,-1.775 -4.6,-1.475
  rectangle: -6.6,-1.125 -4.6,-0.825
  rectangle: -6.6,-0.475 -4.6,-0.175
  rectangle: -6.6,0.175 -4.6,0.475
  rectangle: -6.6,0.825 -4.6,1.125
  rectangle: -6.6,1.475 -4.6,1.775
  rectangle: -6.6,2.125 -4.6,2.425
  rectangle: -6.6,2.775 -4.6,3.075
  rectangle: -6.6,3.425 -4.6,3.725
  rectangle: 4.075,-6.751 4.375,-4.751
  rectangle: 3.425,-6.751 3.725,-4.751
  rectangle: 2.775,-6.751 3.075,-4.751
  rectangle: 2.125,-6.751 2.425,-4.751
  rectangle: 1.475,-6.751 1.775,-4.751
  rectangle: 0.825,-6.751 1.125,-4.751
  rectangle: 0.175,-6.751 0.475,-4.751
  rectangle: -0.475,-6.751 -0.175,-4.751
  rectangle: -1.125,-6.751 -0.825,-4.751
  rectangle: -1.775,-6.751 -1.475,-4.751
  rectangle: -2.425,-6.751 -2.125,-4.751
  rectangle: -3.075,-6.751 -2.775,-4.751
  rectangle: -3.725,-6.751 -3.425,-4.751

## QFP-56 [mm]
pads (56):
  rect 0.35x2.2 smd: 1(-4.225,-6.25) 2(-3.575,-6.25) 3(-2.925,-6.25) 4(-2.275,-6.25) 5(-1.625,-6.25) 6(-0.975,-6.25) 7(-0.325,-6.25) 8(0.325,-6.25) 9(0.975,-6.25) 10(1.625,-6.25) 11(2.275,-6.25) 12(2.925,-6.25) 13(3.575,-6.25) 14(4.225,-6.25) 29(4.225,6.25) 30(3.575,6.25) 31(2.925,6.25) 32(2.275,6.25) 33(1.625,6.25) 34(0.975,6.25) 35(0.325,6.25) 36(-0.325,6.25) 37(-0.975,6.25) 38(-1.625,6.25) 39(-2.275,6.25) 40(-2.925,6.25) 41(-3.575,6.25) 42(-4.225,6.25)
  rect 2.2x0.35 smd: 15(6.75,-4.225) 16(6.75,-3.575) 17(6.75,-2.925) 18(6.75,-2.275) 19(6.75,-1.625) 20(6.75,-0.975) 21(6.75,-0.325) 22(6.75,0.325) 23(6.75,0.975) 24(6.75,1.625) 25(6.75,2.275) 26(6.75,2.925) 27(6.75,3.575) 28(6.75,4.225) 43(-6.75,4.225) 44(-6.75,3.575) 45(-6.75,2.925) 46(-6.75,2.275) 47(-6.75,1.625) 48(-6.75,0.975) 49(-6.75,0.325) 50(-6.75,-0.325) 51(-6.75,-0.975) 52(-6.75,-1.625) 53(-6.75,-2.275) 54(-6.75,-2.925) 55(-6.75,-3.575) 56(-6.75,-4.225)
Top Overlay:
  circle w0.152: c-3.624,-3.127 r0.75
  circle w0.152: c-3.624,-3.127 r0.501
  lines w0.051: -5.25,-4.375 -4.75,-4.075 ; -5.25,4.375 -4.75,4.075 ; -4.875,4.75 -4.575,4.25 ; -4.874,-4.751 -4.575,-4.25 ; 4.874,-4.751 4.575,-4.25 ; 4.875,4.75 4.575,4.25 ; 5.25,-4.375 4.75,-4.075 ; 5.25,4.375 4.75,4.075 ; -4.75,-4.075 -4.75,4.075 ; -4.75,-4.075 -4.575,-4.25 ; -4.75,4.075 -4.575,4.25 ; -4.575,-4.25 4.575,-4.25 ; -4.575,4.25 4.575,4.25 ; 4.575,-4.25 4.75,-4.075 ; 4.575,4.25 4.75,4.075 ; 4.75,-4.075 4.75,4.075
  lines w0.152: -5.25,-4.375 -5.25,4.375 -4.875,4.75 4.875,4.75 5.25,4.375 5.25,-4.375 4.874,-4.751 -4.874,-4.751 -5.25,-4.375
Mechanical 16:
  rectangle: -4.375,4.75 -4.075,6.75
  rectangle: -3.725,4.75 -3.425,6.75
  rectangle: -3.075,4.75 -2.775,6.75
  rectangle: -2.425,4.75 -2.125,6.75
  rectangle: -1.775,4.75 -1.475,6.75
  rectangle: -1.125,4.75 -0.825,6.75
  rectangle: -0.475,4.75 -0.175,6.75
  rectangle: 0.175,4.75 0.475,6.75
  rectangle: 0.825,4.75 1.125,6.75
  rectangle: 1.475,4.75 1.775,6.75
  rectangle: 2.125,4.75 2.425,6.75
  rectangle: 2.775,4.75 3.075,6.75
  rectangle: 3.425,4.75 3.725,6.75
  rectangle: 4.075,4.75 4.375,6.75
  rectangle: 5.25,4.075 7.25,4.375
  rectangle: 5.25,3.425 7.25,3.725
  rectangle: 5.25,2.775 7.25,3.075
  rectangle: 5.25,2.125 7.25,2.425
  rectangle: 5.25,1.475 7.25,1.775
  rectangle: 5.25,0.825 7.25,1.125
  rectangle: 5.25,0.175 7.25,0.475
  rectangle: 5.25,-0.475 7.25,-0.175
  rectangle: 5.25,-1.125 7.25,-0.825
  rectangle: 5.25,-1.775 7.25,-1.475
  rectangle: 5.25,-2.425 7.25,-2.125
  rectangle: 5.25,-3.075 7.25,-2.775
  rectangle: 5.25,-3.725 7.25,-3.425
  rectangle: 5.25,-4.375 7.25,-4.075
  rectangle: -7.25,-4.375 -5.25,-4.075
  rectangle: -7.25,-3.725 -5.25,-3.425
  rectangle: -7.25,-3.075 -5.25,-2.775
  rectangle: -7.25,-2.425 -5.25,-2.125
  rectangle: -7.25,-1.775 -5.25,-1.475
  rectangle: -7.25,-1.125 -5.25,-0.825
  rectangle: -7.25,-0.475 -5.25,-0.175
  rectangle: -7.25,0.175 -5.25,0.475
  rectangle: -7.25,0.825 -5.25,1.125
  rectangle: -7.25,1.475 -5.25,1.775
  rectangle: -7.25,2.125 -5.25,2.425
  rectangle: -7.25,2.775 -5.25,3.075
  rectangle: -7.25,3.425 -5.25,3.725
  rectangle: -7.25,4.075 -5.25,4.375
  rectangle: 4.075,-6.751 4.375,-4.751
  rectangle: 3.425,-6.751 3.725,-4.751
  rectangle: 2.775,-6.751 3.075,-4.751
  rectangle: 2.125,-6.751 2.425,-4.751
  rectangle: 1.475,-6.751 1.775,-4.751
  rectangle: 0.825,-6.751 1.125,-4.751
  rectangle: 0.175,-6.751 0.475,-4.751
  rectangle: -0.475,-6.751 -0.175,-4.751
  rectangle: -1.125,-6.751 -0.825,-4.751
  rectangle: -1.775,-6.751 -1.475,-4.751
  rectangle: -2.425,-6.751 -2.125,-4.751
  rectangle: -3.075,-6.751 -2.775,-4.751
  rectangle: -3.725,-6.751 -3.425,-4.751
  rectangle: -4.375,-6.751 -4.075,-4.751

## SILP-10 [mil]
pads (10):
  oval 48x96 hole 32: 1(-400,0) 2(-300,0) 3(-200,0) 4(-100,0) 5(100,0) 6(200,0) 7(300,0) 8(400,0) 9(500,0) 10(600,0)
Top Overlay:
  circle w6: c-465,0 r22.36
  lines w6: -500,-70 -500,70 700,70 700,-70 -500,-70

## SO-08 [mil]
pads (8):
  rect 24x60 smd: 1(-50,-108) 2(0,-108) 3(50,-108) 4(100,-108) 5(100,108) 6(50,108) 7(0,108) 8(-50,108)
Top Overlay:
  circle w2: c-46,-49 r14
  lines w6: -68,-71 118,-71 118,71 -68,71 -68,-71
  text "8" at -20,25 h62
Mechanical 16:
  rectangle: -57,-113 -43,-73
  rectangle: -7,-113 7,-73
  rectangle: 43,-113 57,-73
  rectangle: 93,-113 107,-73
  rectangle: -57,73 -43,113
  rectangle: -7,73 7,113
  rectangle: 43,73 57,113
  rectangle: 93,73 107,113

## SO-16LD [mil]
pads (16):
  rect 30x60 smd: 1(-175,-188) 2(-125,-188) 3(-75,-188) 4(-25,-188) 5(25,-188) 6(75,-188) 7(125,-188) 8(175,-188) 9(175,188) 10(125,188) 11(75,188) 12(25,188) 13(-25,188) 14(-75,188) 15(-125,188) 16(-175,188)
Top Overlay:
  circle w6: c-166,-111 r21
  lines w6: -200,-146 200,-146 200,146 -200,146 -200,-146
Mechanical 16:
  rectangle: 167,148 183,200
  rectangle: 117,148 133,200
  rectangle: 67,148 83,200
  rectangle: 17,148 33,200
  rectangle: -33,148 -17,200
  rectangle: -83,148 -67,200
  rectangle: -133,148 -117,200
  rectangle: -183,148 -167,200
  rectangle: 167,-200 183,-148
  rectangle: 117,-200 133,-148
  rectangle: 67,-200 83,-148
  rectangle: 17,-200 33,-148
  rectangle: -33,-200 -17,-148
  rectangle: -83,-200 -67,-148
  rectangle: -133,-200 -117,-148
  rectangle: -183,-200 -167,-148

## SO-20LD [mil]
pads (20):
  rect 30x60 smd: 1(-225,-188) 2(-175,-188) 3(-125,-188) 4(-75,-188) 5(-25,-188) 6(25,-188) 7(75,-188) 8(125,-188) 9(175,-188) 10(225,-188) 11(225,187) 12(175,188) 13(125,188) 14(75,188) 15(25,188) 16(-25,188) 17(-75,188) 18(-125,188) 19(-175,188) 20(-225,188)
Top Overlay:
  circle w6: c-212,-109 r21
  lines w6: -247,-145 247,-145 247,144 -247,144 -247,-145
Mechanical 16:
  rectangle: 217,146 233,198
  rectangle: 167,146 183,198
  rectangle: 117,146 133,198
  rectangle: 67,146 83,198
  rectangle: 17,146 33,198
  rectangle: -33,146 -17,198
  rectangle: -83,146 -67,198
  rectangle: -133,146 -117,198
  rectangle: -183,146 -167,198
  rectangle: -233,146 -217,198
  rectangle: 217,-199 233,-147
  rectangle: 167,-199 183,-147
  rectangle: 117,-199 133,-147
  rectangle: 67,-199 83,-147
  rectangle: 17,-199 33,-147
  rectangle: -33,-199 -17,-147
  rectangle: -83,-199 -67,-147
  rectangle: -133,-199 -117,-147
  rectangle: -183,-199 -167,-147
  rectangle: -233,-199 -217,-147

## SO-28LD [mil]
pads (28):
  rect 30x60 smd: 1(-325,-203) 2(-275,-203) 3(-225,-203) 4(-175,-203) 5(-125,-203) 6(-75,-203) 7(-25,-203) 8(25,-203) 9(75,-203) 10(125,-203) 11(175,-203) 12(225,-203) 13(275,-203) 14(325,-203) 15(325,203) 16(275,203) 17(225,203) 18(175,203) 19(125,203) 20(75,203) 21(25,203) 22(-25,203) 23(-75,203) 24(-125,203) 25(-175,203) 26(-225,203) 27(-275,203) 28(-325,203)
Top Overlay:
  circle w6: c-310,-122 r21
  lines w6: -347,-161 348,-161 348,161 -347,161 -347,-161
Mechanical 16:
  rectangle: -335,-222 -315,-162
  rectangle: -285,-222 -265,-162
  rectangle: -235,-222 -215,-162
  rectangle: -185,-222 -165,-162
  rectangle: -135,-222 -115,-162
  rectangle: -85,-222 -65,-162
  rectangle: -35,-222 -15,-162
  rectangle: 15,-222 35,-162
  rectangle: 65,-222 85,-162
  rectangle: 115,-222 135,-162
  rectangle: 165,-222 185,-162
  rectangle: 215,-222 235,-162
  rectangle: 265,-222 285,-162
  rectangle: 315,-222 335,-162
  rectangle: 315,162 335,222
  rectangle: 265,162 285,222
  rectangle: 215,162 235,222
  rectangle: 165,162 185,222
  rectangle: 115,162 135,222
  rectangle: 65,162 85,222
  rectangle: 15,162 35,222
  rectangle: -35,162 -15,222
  rectangle: -85,162 -65,222
  rectangle: -135,162 -115,222
  rectangle: -185,162 -165,222
  rectangle: -235,162 -215,222
  rectangle: -285,162 -265,222
  rectangle: -335,162 -315,222

## SOP-16 [mil]
pads (16):
  rect 19.69x86.61 smd: 1(-175,-139.76) 2(-125.39,-139.76) 3(-75.39,-139.76) 4(-25.39,-139.76) 5(25,-139.76) 6(74.61,-139.76) 7(124.61,-139.76) 8(174.61,-139.76) 9(175,139.76) 10(125,139.76) 11(75,139.76) 12(25,139.76) 13(-25,139.76) 14(-75,139.76) 15(-125,139.76) 16(-175,139.76)
Top Overlay:
  circle w2: c-168.9,-59.06 r19.69
  lines w2: -187.8,-89.49 187.6,-89.49 ccw(c187.6,-79.65) 197.44,-79.65 197.44,79.65 ; -187.6,-89.61 cw(c-187.59,-79.77) -197.44,-79.76 -197.44,79.65 cw(c-187.59,79.65) -187.56,89.5 187.6,89.49 cw(c187.6,79.65) 197.44,79.65 ; 197.44,84.65 197.44,79.65
  lines w6: -198.82,104.33 -189.02,104.33 ; -197.44,-104.33 cw(c-197.54,-94.33) -197.64,-104.33 ; -197.44,104.33 ccw(c-197.44,94.49) -207.28,94.49 -207.28,-94.49 ccw(c-197.44,-94.49) -197.64,-104.33 ; -189.02,-104.33 -197.64,-104.33 ; -160.98,-104.33 -139.41,-104.33 ; -160.98,104.33 -139.02,104.33 ; -111.38,-104.33 -89.41,-104.33 ; -110.98,104.33 -89.02,104.33 ; -61.38,-104.33 -39.41,-104.33 ; -60.98,104.33 -39.02,104.33 ; -11.38,-104.33 10.98,-104.33 ; -10.98,104.33 10.98,104.33 ; 39.02,-104.33 60.59,-104.33 ; 39.02,104.33 60.98,104.33 ; 88.62,-104.33 110.59,-104.33 ; 89.02,104.33 110.98,104.33 ; 138.62,-104.33 160.59,-104.33 ; 139.02,104.33 160.98,104.33 ; 188.62,-104.33 197.24,-104.33 ; 189.02,104.33 197.64,104.33 ; 197.44,-104.33 ccw(c197.44,-94.49) 207.28,-94.49 207.28,94.49 ccw(c197.44,94.49) 197.64,104.33 ; 197.44,104.33 cw(c197.54,94.33) 197.64,104.33
Mechanical 16:
  rectangle: -182.87,104.33 -167.13,159.45
  rectangle: -132.87,104.33 -117.13,159.45
  rectangle: -82.87,104.33 -67.13,159.45
  rectangle: -32.87,104.33 -17.13,159.45
  rectangle: 17.13,104.33 32.87,159.45
  rectangle: 67.13,104.33 82.87,159.45
  rectangle: 117.13,104.33 132.87,159.45
  rectangle: 167.13,104.33 182.87,159.45
  rectangle: 166.73,-159.45 182.48,-104.33
  rectangle: 116.73,-159.45 132.48,-104.33
  rectangle: 66.73,-159.45 82.48,-104.33
  rectangle: 17.13,-159.45 32.87,-104.33
  rectangle: -33.27,-159.45 -17.52,-104.33
  rectangle: -83.27,-159.45 -67.52,-104.33
  rectangle: -133.27,-159.45 -117.52,-104.33
  rectangle: -182.87,-159.45 -167.13,-104.33
  lines w6: -197.44,-104.33 197.44,-104.33 ; -197.44,104.33 197.44,104.33

## SOP-20 [mil]
pads (20):
  rect 19.69x86.61 smd: 1(-225,-216.54) 2(-175,-216.54) 3(-125,-216.54) 4(-75,-216.54) 5(-25,-216.54) 6(25,-216.54) 7(75,-216.54) 8(125,-216.54) 9(175,-216.54) 10(225,-216.54) 11(225,216.54) 12(175,216.54) 13(125,216.54) 14(75,216.54) 15(25,216.54) 16(-25,216.54) 17(-75,216.54) 18(-125,216.54) 19(-175,216.54) 20(-225,216.54)
Top Overlay:
  circle w2: c-206.1,-96.46 r19.69
  lines w2: -255.32,-135.83 -255.32,135.83 cw(c-245.47,135.82) -245.47,145.67 245.87,145.67 cw(c245.67,136.02) 255.32,136.22 255.32,-135.83 cw(c245.47,-135.82) 245.47,-145.67 -245.47,-145.67 cw(c-245.47,-135.82) -255.32,-135.83
  lines w6: -255.35,155.51 -255.32,155.51 ; -255.32,155.51 255.32,155.51 cw(c255.32,145.67) 265.16,145.67 265.16,-145.67 cw(c255.32,-145.67) 255.32,-155.51 -255.32,-155.51 cw(c-255.33,-145.67) -265.16,-146.06 -265.16,145.67 cw(c-255.32,145.67) -255.32,155.51
Mechanical 16:
  rectangle: -231.89,155.51 -218.11,236.22
  rectangle: -181.89,155.51 -168.11,236.22
  rectangle: -131.89,155.51 -118.11,236.22
  rectangle: -81.89,155.51 -68.11,236.22
  rectangle: -31.89,155.51 -18.11,236.22
  rectangle: 18.11,155.51 31.89,236.22
  rectangle: 68.11,155.51 81.89,236.22
  rectangle: 118.11,155.51 131.89,236.22
  rectangle: 168.11,155.51 181.89,236.22
  rectangle: 218.11,155.51 231.89,236.22
  rectangle: -231.89,-236.22 -218.11,-155.51
  rectangle: -181.89,-236.22 -168.11,-155.51
  rectangle: -131.89,-236.22 -118.11,-155.51
  rectangle: -81.89,-236.22 -68.11,-155.51
  rectangle: -31.89,-236.22 -18.11,-155.51
  rectangle: 18.11,-236.22 31.89,-155.51
  rectangle: 68.11,-236.22 81.89,-155.51
  rectangle: 118.11,-236.22 131.89,-155.51
  rectangle: 168.11,-236.22 181.89,-155.51
  rectangle: 218.11,-236.22 231.89,-155.51